# EAGLE library part 5PIN-TH-2.54MM_2 (library CYCFI_Con)
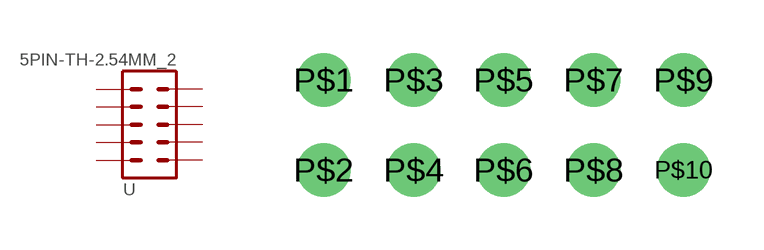
[diagram p28: symbol with the pads of 10P_2X5_2.54MM_MALE; footprint 10P_2X5_2.54MM_MALE]

Designator prefix -

## 5PIN-TH-2.54MM_2  [10P_2X5_2.54MM_MALE]
P$1  1  pas
P$2  2  pas
P$3  3  pas
P$4  4  pas
P$5  5  pas
P$6  6  pas
P$7  7  pas
P$8  8  pas
P$9  9  pas
P$10  10  pas

## Footprint 10P_2X5_2.54MM_MALE (pad centres in mm)
drill 1: P$1 -5.08,1.27; P$2 -5.08,-1.27; P$3 -2.54,1.27; P$4 -2.54,-1.27; P$5 0,1.27; P$6 0,-1.27; P$7 2.54,1.27; P$8 2.54,-1.27; P$9 5.08,1.27; P$10 5.08,-1.27